# Altium schematic symbol library MDA_altium_common.SchLib: 1 symbol
Pins are listed as number, name and electrical type; pins without a type are passive.

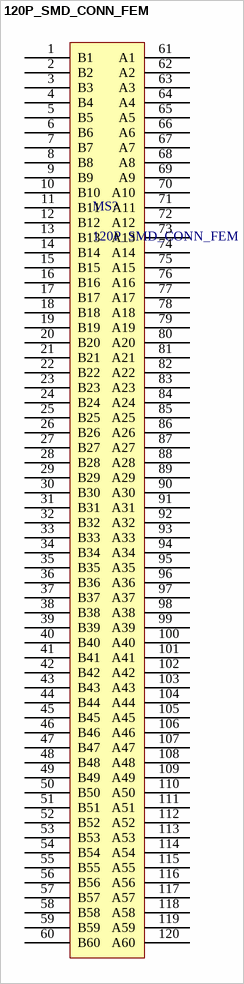
[diagram p0: symbol 120P_SMD_CONN_FEM]

## 120P_SMD_CONN_FEM
designator MS?
Main Stack Connector, Female; Part Number: FX2-120P-1.27SV(71)
pins: 1 B1, 2 B2, 3 B3, 4 B4, 5 B5, 6 B6, 7 B7, 8 B8, 9 B9, 10 B10, 11 B11, 12 B12, 13 B13, 14 B14, 15 B15, 16 B16, 17 B17, 18 B18, 19 B19, 20 B20, 21 B21, 22 B22, 23 B23, 24 B24, 25 B25, 26 B26, 27 B27, 28 B28, 29 B29, 30 B30, 31 B31, 32 B32, 33 B33, 34 B34, 35 B35, 36 B36, 37 B37, 38 B38, 39 B39, 40 B40, 41 B41, 42 B42, 43 B43, 44 B44, 45 B45, 46 B46, 47 B47, 48 B48, 49 B49, 50 B50, 51 B51, 52 B52, 53 B53, 54 B54, 55 B55, 56 B56, 57 B57, 58 B58, 59 B59, 60 B60, 61 A1, 62 A2, 63 A3, 64 A4, 65 A5, 66 A6, 67 A7, 68 A8, 69 A9, 70 A10, 71 A11, 72 A12, 73 A13, 74 A14, 75 A15, 76 A16, 77 A17, 78 A18, 79 A19, 80 A20, 81 A21, 82 A22, 83 A23, 84 A24, 85 A25, 86 A26, 87 A27, 88 A28, 89 A29, 90 A30, 91 A31, 92 A32, 93 A33, 94 A34, 95 A35, 96 A36, 97 A37, 98 A38, 99 A39, 100 A40, 101 A41, 102 A42, 103 A43, 104 A44, 105 A45, 106 A46, 107 A47, 108 A48, 109 A49, 110 A50, 111 A51, 112 A52, 113 A53, 114 A54, 115 A55, 116 A56, 117 A57, 118 A58, 119 A59, 120 A60